# Altium schematic symbol library W25Q64JVSSIQ.SchLib: 1 symbol
Pins are listed as number, name and electrical type; pins without a type are passive.

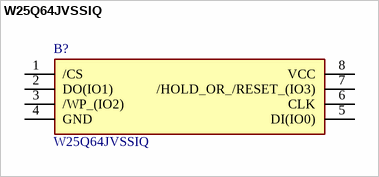
[diagram p0: symbol W25Q64JVSSIQ]

## W25Q64JVSSIQ
designator B?
64M-bit Serial Flash Memory with uniform 4KB sectors and Dual/Quad SPI; Manufacturer_Name: Winbond; Geometry.Height: 2.16mm; Manufacturer_Part_Number: W25Q64JVSSIQ; Mouser Part Number: 454-W25Q64JVSSIQ; Mouser Price/Stock: https://www.mouser.co.uk/ProductDetail/Winbond/W25Q64JVSSIQ?qs=qSfuJ%252Bfl%2Fd4DecxlHDmB8w%3D%3D; Arrow Part Number: W25Q64JVSSIQ; Arrow Price/Stock: https://www.arrow.com/en/products/w25q64jvssiq/winbond-electronics?region=nac; Datasheet Link: https://www.winbond.com/hq/search-resource-file.jsp?partNo=W25Q64JVSSIQ&type=datasheet
footprint SOIC127P790X216-8N
pins: 1 /CS, 2 DO(IO1), 3 /WP_(IO2), 4 GND, 5 DI(IO0), 6 CLK, 7 /HOLD_OR_/RESET_(IO3), 8 VCC